# Altium integrated library RichLibrary.IntLib: 215 symbols (part 1 of 2)
Pins are listed as number, name and electrical type; pins without a type are passive.

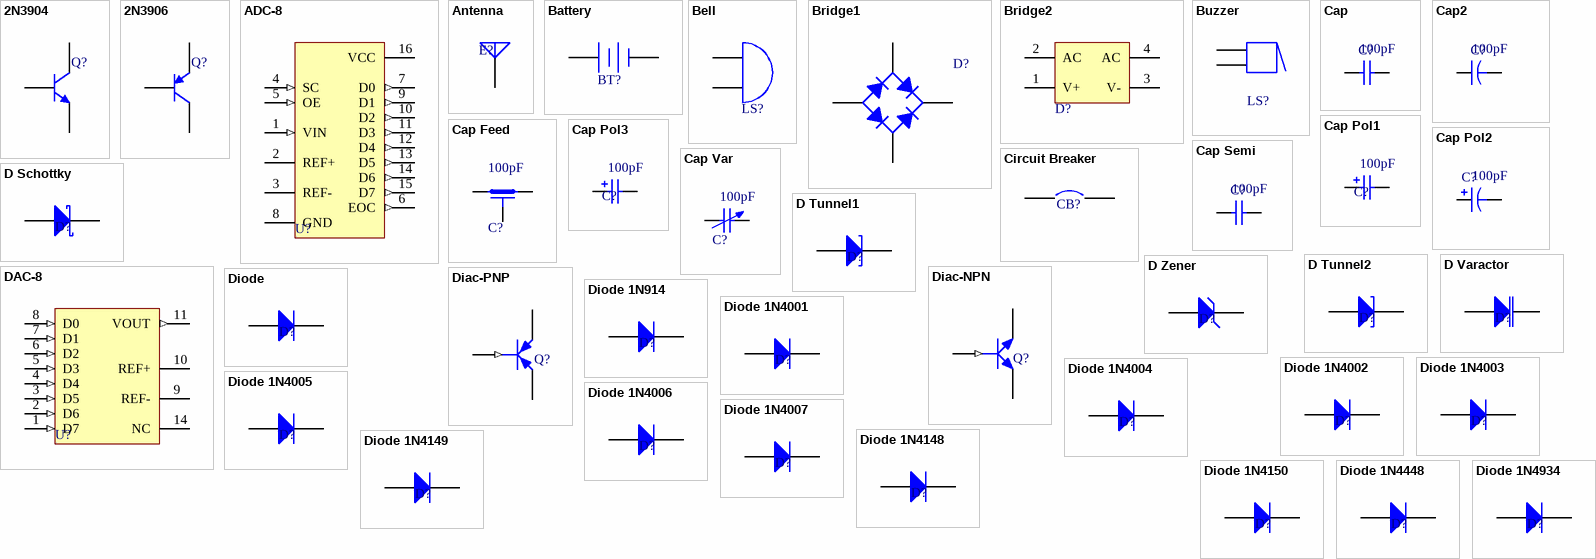
[diagram p0: symbols 2N3904 to Diode 1N4934]

## 2N3904
designator Q?
NPN General Purpose Amplifier; Published: 8-Jun-2000; LatestRevisionDate: 15-Jan-2003; LatestRevisionNote: PCB Footprint 'BCY-W3/D4.7' replaced; DatasheetDocument: 1997; PackageDocument: Sep-1998; PackageReference: TO-92A; Publisher: Altium Limited; Code_JEDEC: TO-92A; ComponentLink1Description: Manufacturer Link; ComponentLink1URL: http://www.fairchildsemi.com/; ComponentLink2Description: Datasheet; ComponentLink2URL: http://www.fairchildsemi.com/ds/2N%2F2N3904.pdf
footprint TO-92A (TO, Flat Index; 3 In-Line, Axial Leads; Body Dia. 4.5mm; Leads 0.51 x 0.48 mm (max))
simulation model 2N3904 (NPN)
signal-integrity model 2N3904
pins: 1 E, 2 B, 3 C

## 2N3906
designator Q?
PNP General Purpose Amplifier; Published: 8-Jun-2000; LatestRevisionDate: 15-Jan-2003; LatestRevisionNote: PCB Footprint 'BCY-W3/D4.7' replaced; DatasheetDocument: 1997; PackageDocument: Sep-1998; PackageReference: TO-92A; Publisher: Altium Limited; Code_JEDEC: TO-92A; ComponentLink1Description: Manufacturer Link; ComponentLink1URL: http://www.fairchildsemi.com/; ComponentLink2Description: Datasheet; ComponentLink2URL: http://www.fairchildsemi.com/ds/2N%2F2N3906.pdf
footprint TO-92A (TO, Flat Index; 3 In-Line, Axial Leads; Body Dia. 4.5mm; Leads 0.51 x 0.48 mm (max))
simulation model 2N3906 (PNP)
signal-integrity model 2N3906
pins: 1 E, 2 B, 3 C

## ADC-8
designator U?
Generic 8-Bit A/D Converter; Published: 8-Jun-2000; LatestRevisionDate: 17-Jul-2002; LatestRevisionNote: Re-released for DXP Platform.; PackageDocument: Mar-2002; PackageReference: SOT403-1; Publisher: Altium Limited; Code_JEDEC: MO-153-AB
footprint SOT403-1 (Shrink Small Outline; 16 Leads; Body Width 4.4 mm; Pitch 0.65 mm)
simulation model ADC8 (SIMCODE)
pins: 1 VIN (in), 2 REF+, 3 REF-, 4 SC (in), 5 OE (in), 6 EOC (out), 7 D0 (out), 8 GND (power), 9 D1 (out), 10 D2 (out), 11 D3 (out), 12 D4 (out), 13 D5 (out), 14 D6 (out), 15 D7 (out), 16 VCC (power)

## Antenna
designator E?
Generic Antenna; Published: 24-Mar-1999; LatestRevisionDate: 17-Jul-2002; LatestRevisionNote: Re-released for DXP Platform.; PackageReference: PIN1; Publisher: Altium Limited
footprint PIN1 (Generic Antenna; 1 Lead)
pins: 1 A

## Battery
designator BT?
Multicell Battery; Published: 24-Mar-1999; LatestRevisionDate: 17-Jul-2002; LatestRevisionNote: Re-released for DXP Platform.; PackageReference: BAT-2; Publisher: Altium Limited
footprint BAT-2 (Multicell Battery; 2 Leads)
pins: 1 +, 2 -

## Bell
designator LS?
Electrical Bell; Published: 24-Mar-1999; LatestRevisionDate: 17-Jul-2002; LatestRevisionNote: Re-released for DXP Platform.; PackageReference: PIN2; Publisher: Altium Limited
footprint PIN2 (Electrical Bell; 2 Leads)
pins: 1 A, 2 B

## Bridge1
designator D?
Full Wave Diode Bridge; Published: 8-Jun-2000; LatestRevisionDate: 17-Jul-2002; LatestRevisionNote: Re-released for DXP Platform.; PackageReference: D-38; Publisher: Altium Limited
footprint D-38 (Bridge Rectifier; 4 Terminals; Body 9.4 x 9.4 mm (typ); Pitch 5.08 mm)
simulation model BRIDGE (Spice Subcircuit)
pins: 1 A, 2 C, 3 K, 4 C

## Bridge2
designator D?
Diode Bridge; Published: 24-Mar-1999; LatestRevisionDate: 17-Jul-2002; LatestRevisionNote: Re-released for DXP Platform.; PackageReference: D-46_6A; Publisher: Altium Limited
footprint D-46_6A (Bridge Rectifier; 4 Terminals; Body 16.8 x 16.8 mm (typ); Pitch 10.67 mm)
simulation model BRIDGE (Spice Subcircuit)
pins: 1 V+, 2 AC, 3 V-, 4 AC

## Buzzer
designator LS?
Magnetic Transducer Buzzer; Published: 24-Mar-1999; LatestRevisionDate: 17-Dec-2003; LatestRevisionNote: Schematic revised, PCB Footprint replaced.; DatasheetDocument: 17-Dec-2003; PackageReference: ABSM-1574; Publisher: Altium Limited; ComponentLink1Description: Manufacturer Link; ComponentLink1URL: http://www.megastar.com/linecard/buzzmode/index.php
footprint ABSM-1574 (Magnetic Transducer Buzzer)
pins: 1, 1A, 2, 2A
1 alternate drawing of the same symbol

## Cap
designator C?  value 100pF
Capacitor; Published: 8-Jun-2000; LatestRevisionDate: 17-Jul-2002; LatestRevisionNote: Re-released for DXP Platform.; PackageReference: RAD-0.3; Publisher: Altium Limited
footprint RAD-0.3 (Capacitor; 2 Leads)
footprint VP32-3.2 (Capacitor, Ceramic, Thru-Hole, Dipped Radial; Body 5.1 x 3.2 mm (WxT) Pin Spacing 2.54 mm (typ))
footprint VP45-3.2 (Capacitor, Ceramic, Thru-Hole, Dipped Radial; Body 7.8 x 3.2 mm (WxT) Pin Spacing 5.08 mm (typ))
simulation model CAP (Capacitor)
signal-integrity model Cap
pins: 1, 2

## Cap2
designator C?  value 100pF
Capacitor; Published: 23-Sep-2002; PackageReference: CAPR5-4X5; Publisher: Altium Limited
footprint CAPR5-4X5 (Capacitor; 2 Leads)
simulation model CAP (Capacitor)
signal-integrity model Cap
pins: 1, 2

## Cap Feed
designator C?  value 100pF
Feed-Through Capacitor; Note: Commonly used for bypassing high-frequency currents to chassis; Published: 24-Mar-1999; LatestRevisionDate: 17-Jul-2002; LatestRevisionNote: Re-released for DXP Platform.; PackageReference: VR4; Publisher: Altium Limited
footprint VR4 (Feed-Through Capacitor; 3 Leads)
signal-integrity model Cap Feed
pins: 1, 2, 3

## Cap Pol1
designator C?  value 100pF
Polarized Capacitor (Radial); Published: 8-Jun-2000; LatestRevisionDate: 17-Jul-2002; LatestRevisionNote: Re-released for DXP Platform.; PackageReference: RB7.6-15; Publisher: Altium Limited
footprint RB7.6-15 (Polarized Capacitor (Radial); 2 Leads)
footprint HA-C1 (Capacitor, Radial, Tantalum; Body 1.7 x 2.8 mm (Dia.xH max); Pin Spacing 1.27 mm (typ))
footprint A (Capacitor, Electrolytic, Radial; Body 4 x 5 mm (Dia.xH typ); Pin Spacing 1.5 mm (typ))
footprint B (Capacitor, Electrolytic, Radial; Body 5 x 6.8 mm (Dia.xH typ); Pin Spacing 2 mm (typ))
footprint CAPPR5-5x5 (Capacitor, Electrolytic, Radial; Body 5 x 5 mm (Dia.xH typ); Pin Spacing 5 mm (typ))
footprint CAPPR7.5-16x35 (Capacitor, Electrolytic, Radial; Body 16 x 35 mm (Dia.xH typ); Pin Spacing 7.5 mm (typ))
simulation model CAP (Capacitor)
signal-integrity model Cap Pol
pins: 1, 2
1 alternate drawing of the same symbol

## Cap Pol2
designator C?  value 100pF
Polarized Capacitor (Axial); Published: 8-Jun-2000; LatestRevisionDate: 17-Jul-2002; LatestRevisionNote: Re-released for DXP Platform.; PackageReference: POLAR0.8; Publisher: Altium Limited
footprint POLAR0.8 (Polarized Capacitor (Axial); 2 Leads)
footprint CAPPA14.05-10.5x6.3 (Capacitor, Axial, Polarised; Body 10.5 x 6.3 mm (LxDia. max), Lead Dia. 0.6 mm (typ))
footprint CAPPA23.6-18.5x8.5 (Capacitor, Axial, Polarised; Body 18.5 x 8.5 mm (LxDia. max), Lead Dia. 0.8 mm (typ))
footprint CAPPA31.6-26.5x12.5 (Capacitor, Axial, Polarised; Body 26.5 x 12.5 mm (LxDia. max), Lead Dia. 0.8 mm (typ))
footprint CAPPA35.6-30.5x18.5 (Capacitor, Axial, Polarised; Body 30.5 x 18.5 mm (LxDia. max), Lead Dia. 0.8 mm (typ))
footprint CAPPA46.1-41x21.5 (Capacitor, Axial, Polarised; Body 41 x 21.5 mm (LxDia. max), Lead Dia. 0.8 mm (typ))
simulation model CAP (Capacitor)
signal-integrity model Cap Pol
pins: 1, 2
1 alternate drawing of the same symbol

## Cap Pol3
designator C?  value 100pF
Polarized Capacitor (Surface Mount); Published: 8-Jun-2000; LatestRevisionDate: 17-Jul-2002; LatestRevisionNote: Re-released for DXP Platform.; PackageReference: C0805; Publisher: Altium Limited
footprint C0805 (Chip Capacitor; Body 2.0 x 1.2 mm (LxW typ))
footprint 1812 (Chip Capacitor; Body 4.5 x 3.2 mm (LxW typ))
footprint 1825 (Chip Capacitor; Body 4.5 x 6.4 mm (LxW typ))
footprint C2225 (Chip Capacitor; Body 5.6 x 6.4 mm (LxW typ))
footprint 2220 (Chip Capacitor; Body 5.7 x 5.0 mm (LxW typ))
simulation model CAP (Capacitor)
signal-integrity model Cap Pol
pins: 1, 2
1 alternate drawing of the same symbol

## Cap Semi
designator C?  value 100pF
Capacitor (Semiconductor SIM Model); Published: 8-Jun-2000; LatestRevisionDate: 17-Jul-2002; LatestRevisionNote: Re-released for DXP Platform.; PackageReference: C1206; Publisher: Altium Limited
footprint C1206 (Chip Capacitor; Body 3.2 x 1.6 mm (LxW typ))
footprint 0402 (Chip Capacitor; Body 1.0 x 0.5 mm (LxW typ))
footprint 1310[0504] (Chip Capacitor; Body 1.2 x 1.0 mm (LxW typ))
footprint 1608[0603] (Chip Capacitor; Body 1.6 x 0.8 mm (LxW typ))
footprint C1210 (Chip Capacitor; Body 3.2 x 2.5 mm (LxW typ))
simulation model CAP (Semiconductor Capacitor)
signal-integrity model Cap Semi
pins: 1, 2

## Cap Var
designator C?  value 100pF
Variable or Adjustable Capacitor; Published: 24-Mar-1999; LatestRevisionDate: 17-Jul-2002; LatestRevisionNote: Re-released for DXP Platform.; PackageReference: C1210; Publisher: Altium Limited
footprint C1210 (Chip Capacitor; Body 3.2 x 2.5 mm (LxW typ))
signal-integrity model Cap Var
pins: 1, 2

## Circuit Breaker
designator CB?
Circuit Breaker; Published: 24-Mar-1999; LatestRevisionDate: 17-Jul-2002; LatestRevisionNote: Re-released for DXP Platform.; PackageReference: SPST-2; Publisher: Altium Limited
footprint SPST-2 (Circuit Breaker; 2 Leads)
pins: 1, 2

## D Schottky
designator D?
Schottky Diode; Published: 8-Jun-2000; LatestRevisionDate: 17-Jul-2002; LatestRevisionNote: Re-released for DXP Platform.; PackageReference: SMB; Publisher: Altium Limited; Code_JEDEC: DO-214-AA
footprint SMB (DO-214-AA/SMB; 2 C-Bend Leads; Body 5.3 x 3.6 mm, inc. leads (LxW))
simulation model SKYDIODE (Diode)
signal-integrity model D Schottky
pins: 1 A, 2 K

## D Tunnel1
designator D?
Tunnel Diode - RLC Model; Published: 8-Jun-2000; LatestRevisionDate: 17-Jul-2002; LatestRevisionNote: Re-released for DXP Platform.; PackageDocument: Feb-2002; PackageReference: 3.2X1.6X1.1; Publisher: Altium Limited
footprint 3.2X1.6X1.1 (SMT LED; 2 Flat Leads)
simulation model DTUNNEL1 (Spice Subcircuit)
signal-integrity model D Tunnel
pins: 1 A, 2 K

## D Tunnel2
designator D?
Tunnel Diode - Dependent Source Model; Published: 15-Apr-2002; LatestRevisionDate: 17-Jul-2002; LatestRevisionNote: Re-released for DXP Platform.; PackageReference: DIODE-0.4; Publisher: Altium Limited
footprint DIODE-0.4 (Tunnel Diode - Dependent Source Model; 2 Leads)
simulation model DTUNNEL2 (Spice Subcircuit)
signal-integrity model D Tunnel
pins: 1 A, 2 K

## D Varactor
designator D?
Variable Capacitance Diode; Note: Pin 2 is not connected and not drawn.; Published: 8-Jun-2000; LatestRevisionDate: 17-Jul-2002; LatestRevisionNote: Re-released for DXP Platform.; DatasheetDocument: Jan-1998; PackageReference: SOT23A; Publisher: Altium Limited; Code_JEDEC: SOT23; ComponentLink1Description: Manufacturer Link; ComponentLink1URL: http://www.zetex.com/
footprint SOT23A (SOT-23; 3 Leads; Body 3.0 x 2.5 mm, inc. leads (LxW max))
simulation model BBY31 (Diode)
signal-integrity model D Varactor
pins: 1 K, 3 A

## D Zener
designator D?
Zener Diode; Published: 8-Jun-2000; LatestRevisionDate: 17-Jul-2002; LatestRevisionNote: Re-released for DXP Platform.; PackageReference: DIODE-0.7; Publisher: Altium Limited
footprint DIODE-0.7 (Zener Diode; 2 Leads)
simulation model ZENER (Diode)
signal-integrity model D Zener
pins: 1 A, 2 K

## DAC-8
designator U?
Generic 8-Bit D/A Converter; Published: 8-Jun-2000; LatestRevisionDate: 16-Dec-2005; LatestRevisionNote: Hidden power pin's "Connect To" field completed.; PackageDocument: Mar-2002; PackageReference: SOT402-1; Publisher: Altium Limited; Code_JEDEC: MO-153-AB-1
footprint SOT402-1 (Shrink Small Outline; 14 Leads; Body Width 4.4 mm; Pitch 0.65 mm)
simulation model DAC8 (SIMCODE)
pins: 1 D7 (in), 2 D6 (in), 3 D5 (in), 4 D4 (in), 5 D3 (in), 6 D2 (in), 7 D1 (in), 8 D0 (in), 9 REF-, 10 REF+, 11 VOUT (out), 12 GND (power) hidden to GND, 13 VCC (power) hidden to VCC, 14 NC

## Diac-NPN
designator Q?
DIAC; Published: 24-Mar-1999; LatestRevisionDate: 17-Jul-2002; LatestRevisionNote: Re-released for DXP Platform.; PackageReference: TO-262-AA; Publisher: Altium Limited; Code_JEDEC: TO-262-AA
footprint TO-262-AA (TO, Thru-Hole, Vertical, Heatsink Mounted; 3 In-Line Leads; Pitch 2.54 mm)
pins: 1 B (in), 2 C, 3 E

## Diac-PNP
designator Q?
DIAC; Published: 24-Mar-1999; LatestRevisionDate: 17-Jul-2002; LatestRevisionNote: Re-released for DXP Platform.; PackageReference: SOT89; Publisher: Altium Limited; Code_JEDEC: TO-243 AA; Code_IPC: SOT 89
footprint SOT89 (SOT-89; Body 4.6 x 4.25 mm, inc. leads (LxW max))
pins: 1 B (in), 2 E, 3 C

## Diode
designator D?
Default Diode; Published: 8-Jun-2000; LatestRevisionDate: 17-Jul-2002; LatestRevisionNote: Re-released for DXP Platform.; PackageDocument: Sep-1996; PackageReference: SMC; Publisher: Altium Limited; Code_JEDEC: DO-214-AB
footprint SMC (DO-214-AB/SMC; 2 C-Bend Leads; Body 7.9 x 5.9 mm, inc. leads (LxW))
simulation model DIODE (Diode)
signal-integrity model Diode
pins: 1 A, 2 K

## Diode 1N914
designator D?
High Conductance Fast Diode; Published: 8-Jun-2000; LatestRevisionDate: 17-Jul-2002; LatestRevisionNote: Re-released for DXP Platform.; DatasheetDocument: 1997; PackageReference: DO-35; Publisher: Altium Limited; Code_JEDEC: DO-204-AH; ComponentLink1Description: Manufacturer Link; ComponentLink1URL: http://www.fairchildsemi.com/; ComponentLink2Description: Datasheet; ComponentLink2URL: http://www.fairchildsemi.com/ds/1N%2F1N4448.pdf
footprint DO-35 (Diode, Axial; Body 3.8 x 1.9 mm (LxDia. max), Lead Dia. 0.53 mm (max))
simulation model 1N914 (DIODE)
signal-integrity model 1N914
pins: 1 A, 2 K

## Diode 1N4001
designator D?
1 Amp General Purpose Rectifier; Published: 8-Jun-2000; LatestRevisionDate: 17-Jul-2002; LatestRevisionNote: Re-released for DXP Platform.; DatasheetDocument: 1998; PackageDocument: Aug-1999; PackageReference: DO-41; Publisher: Altium Limited; Code_JEDEC: DO-204-AL; ComponentLink1Description: Manufacturer Link; ComponentLink1URL: http://www.fairchildsemi.com/; ComponentLink2Description: Datasheet; ComponentLink2URL: http://www.fairchildsemi.com/ds/1N%2F1N4001.pdf
footprint DO-41 (Diode, Axial; Body 5.2 x 2.7 mm (LxDia. max), Lead Dia. 0.86 mm (max))
simulation model 1N4001 (DIODE)
signal-integrity model 1N4001
pins: 1 A, 2 K

## Diode 1N4002
designator D?
1 Amp General Purpose Rectifier; Published: 8-Jun-2000; LatestRevisionDate: 17-Jul-2002; LatestRevisionNote: Re-released for DXP Platform.; DatasheetDocument: 1998; PackageDocument: Aug-1999; PackageReference: DO-41; Publisher: Altium Limited; Code_JEDEC: DO-204-AL; ComponentLink1Description: Manufacturer Link; ComponentLink1URL: http://www.fairchildsemi.com/; ComponentLink2Description: Datasheet; ComponentLink2URL: http://www.fairchildsemi.com/ds/1N%2F1N4001.pdf
footprint DO-41 (Diode, Axial; Body 5.2 x 2.7 mm (LxDia. max), Lead Dia. 0.86 mm (max))
simulation model 1N4002 (DIODE)
signal-integrity model 1N4002
pins: 1 A, 2 K

## Diode 1N4003
designator D?
1 Amp General Purpose Rectifier; Published: 8-Jun-2000; LatestRevisionDate: 17-Jul-2002; LatestRevisionNote: Re-released for DXP Platform.; DatasheetDocument: 1998; PackageDocument: Aug-1999; PackageReference: DO-41; Publisher: Altium Limited; Code_JEDEC: DO-204-AL; ComponentLink1Description: Manufacturer Link; ComponentLink1URL: http://www.fairchildsemi.com/; ComponentLink2Description: Datasheet; ComponentLink2URL: http://www.fairchildsemi.com/ds/1N%2F1N4001.pdf
footprint DO-41 (Diode, Axial; Body 5.2 x 2.7 mm (LxDia. max), Lead Dia. 0.86 mm (max))
simulation model 1N4003 (DIODE)
signal-integrity model 1N4003
pins: 1 A, 2 K

## Diode 1N4004
designator D?
1 Amp General Purpose Rectifier; Published: 8-Jun-2000; LatestRevisionDate: 17-Jul-2002; LatestRevisionNote: Re-released for DXP Platform.; DatasheetDocument: 1998; PackageDocument: Aug-1999; PackageReference: DO-41; Publisher: Altium Limited; Code_JEDEC: DO-204-AL; ComponentLink1Description: Manufacturer Link; ComponentLink1URL: http://www.fairchildsemi.com/; ComponentLink2Description: Datasheet; ComponentLink2URL: http://www.fairchildsemi.com/ds/1N%2F1N4001.pdf
footprint DO-41 (Diode, Axial; Body 5.2 x 2.7 mm (LxDia. max), Lead Dia. 0.86 mm (max))
simulation model 1N4004 (DIODE)
signal-integrity model 1N4004
pins: 1 A, 2 K

## Diode 1N4005
designator D?
1 Amp General Purpose Rectifier; Published: 8-Jun-2000; LatestRevisionDate: 17-Jul-2002; LatestRevisionNote: Re-released for DXP Platform.; DatasheetDocument: 1998; PackageDocument: Aug-1999; PackageReference: DO-41; Publisher: Altium Limited; Code_JEDEC: DO-204-AL; ComponentLink1Description: Manufacturer Link; ComponentLink1URL: http://www.fairchildsemi.com/; ComponentLink2Description: Datasheet; ComponentLink2URL: http://www.fairchildsemi.com/ds/1N%2F1N4001.pdf
footprint DO-41 (Diode, Axial; Body 5.2 x 2.7 mm (LxDia. max), Lead Dia. 0.86 mm (max))
simulation model 1N4005 (DIODE)
signal-integrity model 1N4005
pins: 1 A, 2 K

## Diode 1N4006
designator D?
1 Amp General Purpose Rectifier; Published: 8-Jun-2000; LatestRevisionDate: 17-Jul-2002; LatestRevisionNote: Re-released for DXP Platform.; DatasheetDocument: 1998; PackageDocument: Aug-1999; PackageReference: DO-41; Publisher: Altium Limited; Code_JEDEC: DO-204-AL; ComponentLink1Description: Manufacturer Link; ComponentLink1URL: http://www.fairchildsemi.com/; ComponentLink2Description: Datasheet; ComponentLink2URL: http://www.fairchildsemi.com/ds/1N%2F1N4001.pdf
footprint DO-41 (Diode, Axial; Body 5.2 x 2.7 mm (LxDia. max), Lead Dia. 0.86 mm (max))
simulation model 1N4006 (DIODE)
signal-integrity model 1N4006
pins: 1 A, 2 K

## Diode 1N4007
designator D?
1 Amp General Purpose Rectifier; Published: 8-Jun-2000; LatestRevisionDate: 17-Jul-2002; LatestRevisionNote: Re-released for DXP Platform.; DatasheetDocument: 1998; PackageDocument: Aug-1999; PackageReference: DO-41; Publisher: Altium Limited; Code_JEDEC: DO-204-AL; ComponentLink1Description: Manufacturer Link; ComponentLink1URL: http://www.fairchildsemi.com/; ComponentLink2Description: Datasheet; ComponentLink2URL: http://www.fairchildsemi.com/ds/1N%2F1N4001.pdf
footprint DO-41 (Diode, Axial; Body 5.2 x 2.7 mm (LxDia. max), Lead Dia. 0.86 mm (max))
simulation model 1N4007 (DIODE)
signal-integrity model 1N4007
pins: 1 A, 2 K

## Diode 1N4148
designator D?
High Conductance Fast Diode; Published: 8-Jun-2000; LatestRevisionDate: 17-Jul-2002; LatestRevisionNote: Re-released for DXP Platform.; DatasheetDocument: 1997; PackageReference: DO-35; Publisher: Altium Limited; Code_JEDEC: DO-204-AH; ComponentLink1Description: Manufacturer Link; ComponentLink1URL: http://www.fairchildsemi.com/; ComponentLink2Description: Datasheet; ComponentLink2URL: http://www.fairchildsemi.com/ds/1N%2F1N4148.pdf
footprint DO-35 (Diode, Axial; Body 3.8 x 1.9 mm (LxDia. max), Lead Dia. 0.53 mm (max))
simulation model 1N4148 (DIODE)
signal-integrity model 1N4148
pins: 1 A, 2 K

## Diode 1N4149
designator D?
Computer Diode; PackageDocument: 1989; Published: 8-Jun-2000; LatestRevisionDate: 17-Jul-2002; LatestRevisionNote: Re-released for DXP Platform.; DatasheetDocument: 1989; PackageReference: DO-35A; Publisher: Altium Limited; Code_JEDEC: DO-204-AH; ComponentLink1Description: Manufacturer Link; ComponentLink1URL: http://www.national.com/
footprint DO-35A (Diode, Axial; Body 4.6 x 1.9 mm (LxDia. max), Lead Dia. 0.53 mm (max))
simulation model 1N4149 (DIODE)
pins: 1 A, 2 K

## Diode 1N4150
designator D?
High Conductance Ultra Fast Diode; Published: 8-Jun-2000; LatestRevisionDate: 17-Jul-2002; LatestRevisionNote: Re-released for DXP Platform.; DatasheetDocument: 1997; PackageReference: DO-35; Publisher: Altium Limited; Code_JEDEC: DO-204-AH; ComponentLink1Description: Manufacturer Link; ComponentLink1URL: http://www.fairchildsemi.com/
footprint DO-35 (Diode, Axial; Body 3.8 x 1.9 mm (LxDia. max), Lead Dia. 0.53 mm (max))
simulation model 1N4150 (DIODE)
signal-integrity model 1N4150
pins: 1 A, 2 K

## Diode 1N4448
designator D?
High Conductance Fast Diode; Published: 8-Jun-2000; LatestRevisionDate: 17-Jul-2002; LatestRevisionNote: Re-released for DXP Platform.; DatasheetDocument: 1997; PackageReference: DO-35; Publisher: Altium Limited; Code_JEDEC: DO-204-AH; ComponentLink1Description: Manufacturer Link; ComponentLink1URL: http://www.fairchildsemi.com/; ComponentLink2Description: Datasheet; ComponentLink2URL: http://www.fairchildsemi.com/ds/1N%2F1N4448.pdf
footprint DO-35 (Diode, Axial; Body 3.8 x 1.9 mm (LxDia. max), Lead Dia. 0.53 mm (max))
simulation model 1N4448 (DIODE)
signal-integrity model 1N4448
pins: 1 A, 2 K

## Diode 1N4934
designator D?
1 Amp Fast Recovery Rectifier; Published: 8-Jun-2000; LatestRevisionDate: 17-Jul-2002; LatestRevisionNote: Re-released for DXP Platform.; DatasheetDocument: 1999; PackageDocument: Aug-1999; PackageReference: DO-41; Publisher: Altium Limited; Code_JEDEC: DO-204-AL; ComponentLink1Description: Manufacturer Link; ComponentLink1URL: http://www.fairchildsemi.com/; ComponentLink2Description: Datasheet; ComponentLink2URL: http://www.fairchildsemi.com/ds/1N%2F1N4934.pdf
footprint DO-41 (Diode, Axial; Body 5.2 x 2.7 mm (LxDia. max), Lead Dia. 0.86 mm (max))
simulation model 1N4934 (DIODE)
signal-integrity model 1N4934
pins: 1 A, 2 K

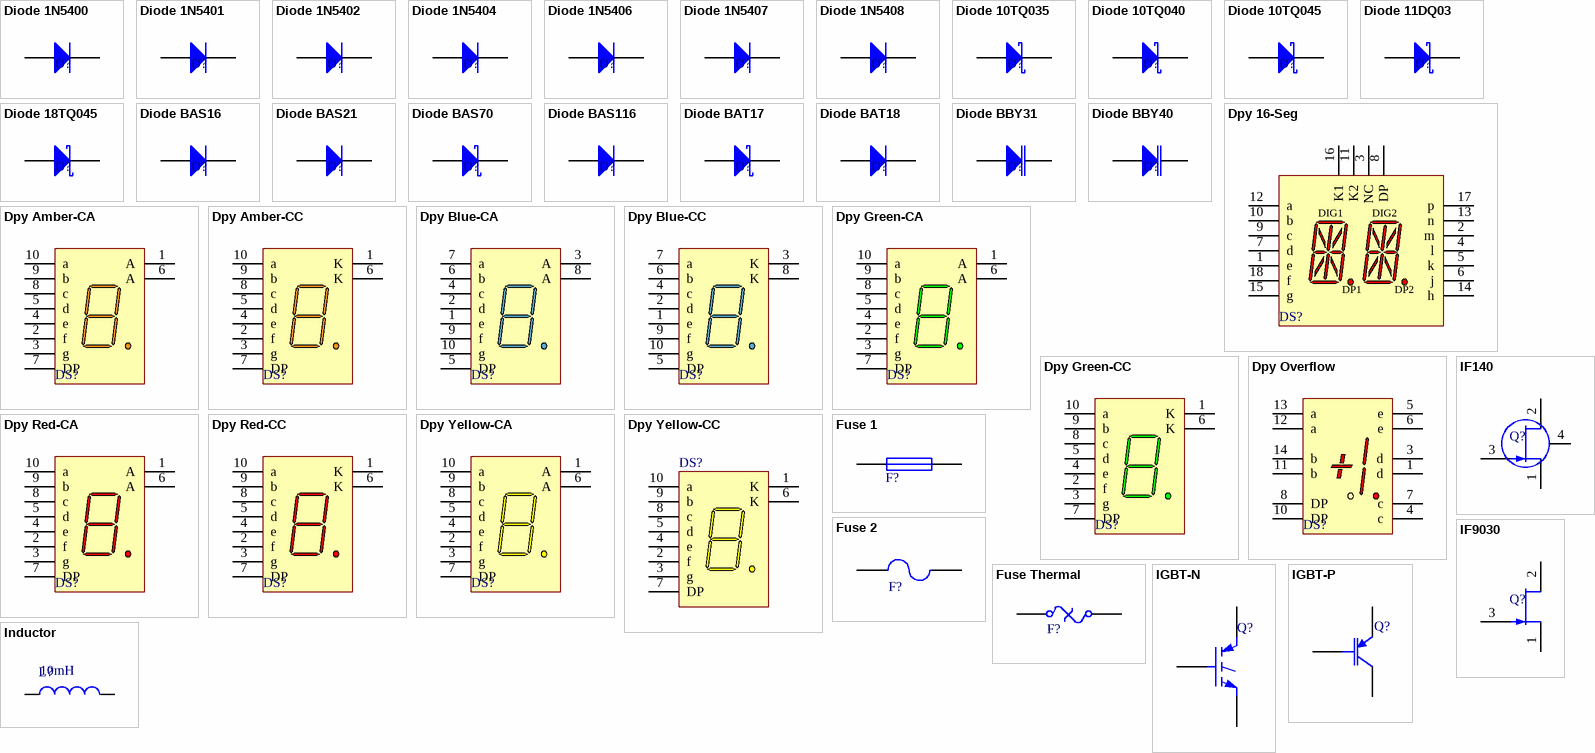
[diagram p1: symbols Diode 1N5400 to Inductor]

## Diode 1N5400
designator D?
3 Amp General Purpose Rectifier; Published: 8-Jun-2000; LatestRevisionDate: 17-Jul-2002; LatestRevisionNote: Re-released for DXP Platform.; DatasheetDocument: 1998; PackageDocument: Aug-1999; PackageReference: DO-201AD; Publisher: Altium Limited; ComponentLink1Description: Manufacturer Link; ComponentLink1URL: http://www.fairchildsemi.com/; ComponentLink2Description: Datasheet; ComponentLink2URL: http://www.fairchildsemi.com/ds/1N%2F1N5400.pdf
footprint DO-201AD (Diode, Axial; Body 9.5 x 5.6 mm (LxDia. max), Lead Dia. 1.32 mm (max))
simulation model 1N5400 (DIODE)
signal-integrity model 1N5400
pins: 1 A, 2 K

## Diode 1N5401
designator D?
3 Amp General Purpose Rectifier; Published: 8-Jun-2000; LatestRevisionDate: 17-Jul-2002; LatestRevisionNote: Re-released for DXP Platform.; DatasheetDocument: 1998; PackageDocument: Aug-1999; PackageReference: DO-201AD; Publisher: Altium Limited; ComponentLink1Description: Manufacturer Link; ComponentLink1URL: http://www.fairchildsemi.com/; ComponentLink2Description: Datasheet; ComponentLink2URL: http://www.fairchildsemi.com/ds/1N%2F1N5400.pdf
footprint DO-201AD (Diode, Axial; Body 9.5 x 5.6 mm (LxDia. max), Lead Dia. 1.32 mm (max))
simulation model 1N5401 (DIODE)
signal-integrity model 1N5401
pins: 1 A, 2 K

## Diode 1N5402
designator D?
3 Amp General Purpose Rectifier; Published: 8-Jun-2000; LatestRevisionDate: 17-Jul-2002; LatestRevisionNote: Re-released for DXP Platform.; DatasheetDocument: 1998; PackageDocument: Aug-1999; PackageReference: DO-201AD; Publisher: Altium Limited; ComponentLink1Description: Manufacturer Link; ComponentLink1URL: http://www.fairchildsemi.com/; ComponentLink2Description: Datasheet; ComponentLink2URL: http://www.fairchildsemi.com/ds/1N%2F1N5400.pdf
footprint DO-201AD (Diode, Axial; Body 9.5 x 5.6 mm (LxDia. max), Lead Dia. 1.32 mm (max))
simulation model 1N5402 (DIODE)
signal-integrity model 1N5402
pins: 1 A, 2 K

## Diode 1N5404
designator D?
3 Amp General Purpose Rectifier; Published: 8-Jun-2000; LatestRevisionDate: 17-Jul-2002; LatestRevisionNote: Re-released for DXP Platform.; DatasheetDocument: 1998; PackageDocument: Aug-1999; PackageReference: DO-201AD; Publisher: Altium Limited; ComponentLink1Description: Manufacturer Link; ComponentLink1URL: http://www.fairchildsemi.com/; ComponentLink2Description: Datasheet; ComponentLink2URL: http://www.fairchildsemi.com/ds/1N%2F1N5400.pdf
footprint DO-201AD (Diode, Axial; Body 9.5 x 5.6 mm (LxDia. max), Lead Dia. 1.32 mm (max))
simulation model 1N5404 (DIODE)
signal-integrity model 1N5404
pins: 1 A, 2 K

## Diode 1N5406
designator D?
3 Amp General Purpose Rectifier; Published: 8-Jun-2000; LatestRevisionDate: 17-Jul-2002; LatestRevisionNote: Re-released for DXP Platform.; DatasheetDocument: 1998; PackageDocument: Aug-1999; PackageReference: DO-201AD; Publisher: Altium Limited; ComponentLink1Description: Manufacturer Link; ComponentLink1URL: http://www.fairchildsemi.com/; ComponentLink2Description: Datasheet; ComponentLink2URL: http://www.fairchildsemi.com/ds/1N%2F1N5400.pdf
footprint DO-201AD (Diode, Axial; Body 9.5 x 5.6 mm (LxDia. max), Lead Dia. 1.32 mm (max))
simulation model 1N5406 (DIODE)
signal-integrity model 1N5406
pins: 1 A, 2 K

## Diode 1N5407
designator D?
3 Amp Medium Power Silicon Rectifier Diode; Published: 8-Jun-2000; LatestRevisionDate: 17-Jul-2002; LatestRevisionNote: Re-released for DXP Platform.; DatasheetDocument: Aug-1984; PackageReference: DO-201AD; Publisher: Altium Limited; ComponentLink1Description: Manufacturer Link; ComponentLink1URL: http://www.irf.com/
footprint DO-201AD (Diode, Axial; Body 9.5 x 5.3 mm (LxDia. max), Lead Dia. 1.32 mm (max))
simulation model 1N5407 (DIODE)
signal-integrity model 1N5407
pins: 1 A, 2 K

## Diode 1N5408
designator D?
3 Amp Medium Power Silicon Rectifier Diode; Published: 8-Jun-2000; LatestRevisionDate: 17-Jul-2002; LatestRevisionNote: Re-released for DXP Platform.; DatasheetDocument: Aug-1984; PackageReference: DO-201AD; Publisher: Altium Limited; ComponentLink1Description: Manufacturer Link; ComponentLink1URL: http://www.irf.com/
footprint DO-201AD (Diode, Axial; Body 9.5 x 5.3 mm (LxDia. max), Lead Dia. 1.32 mm (max))
simulation model 1N5408 (DIODE)
signal-integrity model 1N5408
pins: 1 A, 2 K

## Diode 10TQ035
designator D?
Schottky Rectifier; Note: Terminal 2 is the TAB and is electrically connected to the cathode; Published: 8-Jun-2000; LatestRevisionDate: 17-Jul-2002; LatestRevisionNote: Re-released for DXP Platform.; DatasheetDocument: PD-2.057B; PackageDocument: Feb-1998; PackageReference: TO-220AC; Publisher: Altium Limited; ComponentLink1Description: Manufacturer Link; ComponentLink1URL: http://www.irf.com/; ComponentLink2Description: Datasheet; ComponentLink2URL: http://www.irf.com/product-info/datasheets/data/10tq.pdf
footprint TO-220AC (TO, Thru-Hole, Vertical, Heatsink Mounted; 3 In-Line Leads (1 Absent); Pitch 2.54 mm)
simulation model 10TQ035 (DIODE)
pins: 1 K, 3 A

## Diode 10TQ040
designator D?
Schottky Rectifier; Note: Terminal 2 is the TAB and is electrically connected to the cathode; Published: 8-Jun-2000; LatestRevisionDate: 17-Jul-2002; LatestRevisionNote: Re-released for DXP Platform.; DatasheetDocument: PD-2.057B; PackageDocument: Feb-1998; PackageReference: TO-220AC; Publisher: Altium Limited; ComponentLink1Description: Manufacturer Link; ComponentLink1URL: http://www.irf.com/
footprint TO-220AC (TO, Thru-Hole, Vertical, Heatsink Mounted; 3 In-Line Leads (1 Absent); Pitch 2.54 mm)
simulation model 10TQ040 (DIODE)
pins: 1 K, 3 A

## Diode 10TQ045
designator D?
Schottky Rectifier; Note: Terminal 2 is the TAB and is electrically connected to the cathode; Published: 8-Jun-2000; LatestRevisionDate: 17-Jul-2002; LatestRevisionNote: Re-released for DXP Platform.; DatasheetDocument: PD-2.057B; PackageDocument: Feb-1998; PackageReference: TO-220AC; Publisher: Altium Limited; ComponentLink1Description: Manufacturer Link; ComponentLink1URL: http://www.irf.com/; ComponentLink2Description: Datasheet; ComponentLink2URL: http://www.irf.com/product-info/datasheets/data/10tq.pdf
footprint TO-220AC (TO, Thru-Hole, Vertical, Heatsink Mounted; 3 In-Line Leads (1 Absent); Pitch 2.54 mm)
simulation model 10TQ045 (DIODE)
pins: 1 K, 3 A

## Diode 11DQ03
designator D?
Schottky Rectifier; Published: 8-Jun-2000; LatestRevisionDate: 17-Jul-2002; LatestRevisionNote: Re-released for DXP Platform.; DatasheetDocument: Dec-1997; PackageReference: DO-204AL; Publisher: Altium Limited; Code_JEDEC: DO-204-AL; ComponentLink1Description: Manufacturer Link; ComponentLink1URL: http://www.irf.com/; ComponentLink2Description: Datasheet; ComponentLink2URL: http://www.irf.com/product-info/datasheets/data/11dq03.pdf
footprint DO-204AL (Diode, Axial; Body 5.2 x 2.7 mm (LxDia. max), Lead Dia. 0.86 mm (max))
simulation model 11DQ03 (DIODE)
pins: 1 A, 2 K

## Diode 18TQ045
designator D?
Schottky Rectifier; Note: Terminal 2 is the TAB and is electrically connected to the cathode; Published: 8-Jun-2000; LatestRevisionDate: 17-Jul-2002; LatestRevisionNote: Re-released for DXP Platform.; DatasheetDocument: Dec-1997; PackageDocument: Feb-1998; PackageReference: TO-220AC; Publisher: Altium Limited; ComponentLink1Description: Manufacturer Link; ComponentLink1URL: http://www.irf.com/; ComponentLink2Description: Datasheet; ComponentLink2URL: http://www.irf.com/product-info/datasheets/data/18tq.pdf
footprint TO-220AC (TO, Thru-Hole, Vertical, Heatsink Mounted; 3 In-Line Leads (1 Absent); Pitch 2.54 mm)
simulation model 18TQ045 (DIODE)
pins: 1 K, 3 A

## Diode BAS16
designator D?
Silicon Switching Diode for High-Speed Switching; Note: Pin 2 is not connected and not drawn.; Published: 21-Mar-2003; DatasheetDocument: Oct-1999; PackageDocument: Sep-2001; PackageReference: SOT-23; Publisher: Altium Limited; ComponentLink1Description: Manufacturer Link; ComponentLink1URL: http://www.infineon.com/; ComponentLink2Description: Datasheet; ComponentLink2URL: http://www.infineon.com/upload/Document/cmc_upload/documents/012/5331/bas16series.pdf
footprint SOT-23 (SOT-23; 3 Leads; Body 3.0 x 2.6 mm, inc. leads (LxW max))
simulation model BAS16 (SUBCKT)
pins: 1 A, 3 K

## Diode BAS21
designator D?
Silicon Switching Diode for High-Speed, High-Voltage Switching; Note: Pin 2 is not connected and not drawn.; Published: 21-Mar-2003; DatasheetDocument: Oct-1999; PackageDocument: Sep-2001; PackageReference: SOT-23; Publisher: Altium Limited; ComponentLink1Description: Manufacturer Link; ComponentLink1URL: http://www.infineon.com/; ComponentLink2Description: Datasheet; ComponentLink2URL: http://www.infineon.com/upload/Document/cmc_upload/documents/080/812/bas21series.pdf
footprint SOT-23 (SOT-23; 3 Leads; Body 3.0 x 2.6 mm, inc. leads (LxW max))
simulation model BAS21 (DIODE)
pins: 1 A, 3 K

## Diode BAS70
designator D?
Silicon AF Schottky Diode for High-Speed Switching; Note: Pin 2 is not connected and not drawn.; Published: 21-Mar-2003; DatasheetDocument: Oct-1999; PackageDocument: Sep-2001; PackageReference: SOT-23; Publisher: Altium Limited; ComponentLink1Description: Manufacturer Link; ComponentLink1URL: http://www.infineon.com/; ComponentLink2Description: Datasheet; ComponentLink2URL: http://www.infineon.com/upload/Document/cmc_upload/documents/009/382/bas40_bas140series_1.pdf
footprint SOT-23 (SOT-23; 3 Leads; Body 3.0 x 2.6 mm, inc. leads (LxW max))
simulation model BAS70 (DIODE)
pins: 1 A, 3 K

## Diode BAS116
designator D?
Silicon Low Leakage Diode; Note: Pin 2 is not connected and not drawn.; Published: 21-Mar-2003; DatasheetDocument: Oct-1999; PackageDocument: Sep-2001; PackageReference: SOT-23; Publisher: Altium Limited; ComponentLink1Description: Manufacturer Link; ComponentLink1URL: http://www.infineon.com/; ComponentLink2Description: Datasheet; ComponentLink2URL: http://www.infineon.com/upload/Document/cmc_upload/documents/080/656/bas116series.pdf
footprint SOT-23 (SOT-23; 3 Leads; Body 3.0 x 2.6 mm, inc. leads (LxW max))
simulation model BAS116 (DIODE)
pins: 1 A, 3 K

## Diode BAT17
designator D?
Silicon RF Schottky Diode for Mixer Applications in the VHF/UHF Range; Note: Pin 2 is not connected and not drawn.; Published: 21-Mar-2003; DatasheetDocument: Oct-1999; PackageDocument: Sep-2001; PackageReference: SOT-23; Publisher: Altium Limited; ComponentLink1Description: Manufacturer Link; ComponentLink1URL: http://www.infineon.com/; ComponentLink2Description: Datasheet; ComponentLink2URL: http://www.infineon.com/upload/Document/cmc_upload/documents/009/363/bat17series.pdf
footprint SOT-23 (SOT-23; 3 Leads; Body 3.0 x 2.6 mm, inc. leads (LxW max))
simulation model D188 (DIODE)
pins: 1 A, 3 K

## Diode BAT18
designator D?
Low-Loss RF Switching Diode; Note: Pin 2 is not connected and not drawn.; Published: 21-Mar-2003; DatasheetDocument: Oct-1999; PackageDocument: Sep-2001; PackageReference: SOT-23; Publisher: Altium Limited; ComponentLink1Description: Manufacturer Link; ComponentLink1URL: http://www.infineon.com/
footprint SOT-23 (SOT-23; 3 Leads; Body 3.0 x 2.6 mm, inc. leads (LxW max))
simulation model BAT18 (DIODE)
pins: 1 A, 3 K

## Diode BBY31
designator D?
SOT23 Silicon Planar Variable Capacitance Diode; PackageDocument: 1996; Note: Pin 2 is not connected and not drawn.; Published: 8-Jun-2000; LatestRevisionDate: 17-Jul-2002; LatestRevisionNote: Re-released for DXP Platform.; DatasheetDocument: Jan-1998; PackageReference: SOT23; Publisher: Altium Limited; ComponentLink1Description: Manufacturer Link; ComponentLink1URL: http://www.zetex.com/; ComponentLink2Description: Datasheet; ComponentLink2URL: www.zetex.com/3.0/pdf/BBY31.pdf
footprint SOT23 (SOT-23; 3 Leads; Body 3.1 x 2.5 mm, inc. leads (LxW max), Alternate Lead Configuration)
simulation model BBY31 (DIODE)
pins: 1 K, 3 A

## Diode BBY40
designator D?
SOT23 Silicon Planar Variable Capacitance Diode; PackageDocument: 1996; Note: Pin 2 is not connected and not drawn.; Published: 8-Jun-2000; LatestRevisionDate: 17-Jul-2002; LatestRevisionNote: Re-released for DXP Platform.; DatasheetDocument: Jan-1998; PackageReference: SOT23; Publisher: Altium Limited; ComponentLink1Description: Manufacturer Link; ComponentLink1URL: http://www.zetex.com/; ComponentLink2Description: Datasheet; ComponentLink2URL: www.zetex.com/3.0/pdf/BBY40.pdf
footprint SOT23 (SOT-23; 3 Leads; Body 3.1 x 2.5 mm, inc. leads (LxW max), Alternate Lead Configuration)
simulation model BBY40 (DIODE)
pins: 1 K, 3 A

## Dpy 16-Seg
designator DS?
13.7 mm Gray Surface As AlInGaP Red Alphanumeric Display: 2-Character, CC; Published: 8-Jun-2000; LatestRevisionDate: 17-Dec-2003; LatestRevisionNote: Schematic revised, PCB Footprint replaced.; DatasheetDocument: 20-Nov-2001; PackageDocument: 20-Nov-2001; PackageReference: HDSP-A2; Publisher: Altium Limited; Colour: As AlInGaP Red; ComponentLink1Description: Manufacturer Link; ComponentLink1URL: http://www.agilent.com/
footprint HDSP-A2 (LED, Alphanumeric Display, 13.8 mm, Dual Character; 18 Leads; Row Space 15.24 mm; Pitch 2.54 mm)
simulation model HDSP_A27C (SUBCKT)
pins: 1 e "Digits (1&2) e Anode", 2 m "Digits (1&2) m Anode", 3 NC "No Connect", 4 l "Digits (1&2) l Anode", 5 k "Digits (1&2) k Anode", 6 j "Digits (1&2) j Anode", 7 d "Digits (1&2) d Anode", 8 DP "Digit 1&2 DP Anode", 9 c "Digits (1&2) c Anode", 10 b "Digits (1&2) b Anode", 11 K2 "Digit 2 Common Cathode", 12 a "Digits (1&2) a Anode", 13 n "Digits (1&2) n Anode", 14 h "Digits (1&2) h Anode", 15 g "Digits (1&2) g Anode", 16 K1 "Digit 1 Common Cathode", 17 p "Digits (1&2) p Anode", 18 f "Digits (1&2) f Anode"
text: DIG1; DIG2; DP1; DP2

## Dpy Amber-CA
designator DS?
7.62 mm Black Surface Orange 7-Segment Display: CA, RH DP; MinimumIntensity: 354 ucd; Note: IF = 5 mA; Note: Pins 1 and 6 are redundant Anodes.; Published: 8-Jun-2000; LatestRevisionDate: 17-Dec-2003; LatestRevisionNote: Schematic revised, PCB Footprint replaced.; DatasheetDocument: 19-Feb-2002; PackageDocument: 19-Feb-2002; PackageReference: LEDDIP-10; Publisher: Altium Limited; Colour: Orange; ComponentLink1Description: Manufacturer Link; ComponentLink1URL: http://www.agilent.com/
footprint LEDDIP-10 (LED, 7-Segment Display, 7.62 mm, RHD; 10 Leads; Row Space 5.08 mm; Pitch 2.54 mm)
simulation model HDSP_A211 (SUBCKT)
pins: 1 A "Anode", 2 f "Cathode", 3 g "Cathode", 4 e "Cathode", 5 d "Cathode", 6 A "Anode", 7 DP "Cathode", 8 c "Cathode", 9 b "Cathode", 10 a "Cathode"

## Dpy Amber-CC
designator DS?
7.62 mm Black Surface Orange 7-Segment Display: CC, RH DP; MinimumIntensity: 354 ucd; Note: IF = 5 mA; Note: Pins 1 and 6 are redundant Cathodes.; Published: 8-Jun-2000; LatestRevisionDate: 17-Dec-2003; LatestRevisionNote: Schematic revised, PCB Footprint replaced.; DatasheetDocument: 19-Feb-2002; PackageDocument: 19-Feb-2002; PackageReference: LEDDIP-10; Publisher: Altium Limited; Colour: Orange; ComponentLink1Description: Manufacturer Link; ComponentLink1URL: http://www.agilent.com/
footprint LEDDIP-10 (LED, 7-Segment Display, 7.62 mm, RHD; 10 Leads; Row Space 5.08 mm; Pitch 2.54 mm)
simulation model HDSP_A213 (SUBCKT)
pins: 1 K "Cathode", 2 f "Anode", 3 g "Anode", 4 e "Anode", 5 d "Anode", 6 K "Cathode", 7 DP "Anode", 8 c "Anode", 9 b "Anode", 10 a "Anode"

## Dpy Blue-CA
designator DS?
14.2 mm General Purpose Blue 7-Segment Display: CA, RH DP, Gray Surface; MinimumIntensity: 2020 ucd; Note: IF = 10 mA; Published: 8-Jun-2000; LatestRevisionDate: 17-Dec-2003; LatestRevisionNote: Schematic revised, PCB Footprint replaced.; DatasheetDocument: 24-Sep-2002; PackageDocument: 24-Sep-2002; PackageReference: H; Publisher: Altium Limited; Colour: Blue; ComponentLink1Description: Manufacturer Link; ComponentLink1URL: http://www.agilent.com/
footprint H (LED, 7-Segment Display, 14.2 mm, RHD; 10 Leads; Row Space 15.24 mm; Pitch 2.54 mm)
simulation model HDSP_501B (SUBCKT)
pins: 1 e "Cathode", 2 d "Cathode", 3 A "Common Anode", 4 c "Cathode", 5 DP "Cathode", 6 b "Cathode", 7 a "Cathode", 8 A "Common Anode", 9 f "Cathode", 10 g "Cathode"

## Dpy Blue-CC
designator DS?
14.2 mm General Purpose Blue 7-Segment Display: CC, RH DP, Gray Surface; MinimumIntensity: 2020 ucd; Note: IF = 10 mA; Published: 8-Jun-2000; LatestRevisionDate: 17-Dec-2003; LatestRevisionNote: Schematic revised, PCB Footprint replaced.; DatasheetDocument: 24-Sep-2002; PackageDocument: 24-Sep-2002; PackageReference: H; Publisher: Altium Limited; Colour: Blue; ComponentLink1Description: Manufacturer Link; ComponentLink1URL: http://www.agilent.com/
footprint H (LED, 7-Segment Display, 14.2 mm, RHD; 10 Leads; Row Space 15.24 mm; Pitch 2.54 mm)
simulation model HDSP_503B (SUBCKT)
pins: 1 e "Anode", 2 d "Anode", 3 K "Common Cathode", 4 c "Anode", 5 DP "Anode", 6 b "Anode", 7 a "Anode", 8 K "Common Cathode", 9 f "Anode", 10 g "Anode"

## Dpy Green-CA
designator DS?
7.62 mm Black Surface Green 7-Segment Display: CA, RH DP; MinimumIntensity: 860 ucd; Note: IF = 10 mA; Note: Pins 1 and 6 are redundant Anodes.; Published: 8-Jun-2000; LatestRevisionDate: 17-Dec-2003; LatestRevisionNote: Schematic revised, PCB Footprint replaced.; DatasheetDocument: 19-Feb-2002; PackageDocument: 19-Feb-2002; PackageReference: LEDDIP-10; Publisher: Altium Limited; Colour: Green; ComponentLink1Description: Manufacturer Link; ComponentLink1URL: http://www.agilent.com/
footprint LEDDIP-10 (LED, 7-Segment Display, 7.62 mm, RHD; 10 Leads; Row Space 5.08 mm; Pitch 2.54 mm)
simulation model HDSP_A511 (SUBCKT)
pins: 1 A "Anode", 2 f "Cathode", 3 g "Cathode", 4 e "Cathode", 5 d "Cathode", 6 A "Anode", 7 DP "Cathode", 8 c "Cathode", 9 b "Cathode", 10 a "Cathode"

## Dpy Green-CC
designator DS?
7.62 mm Black Surface Green 7-Segment Display: CC, RH DP; MinimumIntensity: 860 ucd; Note: IF = 10 mA; Note: Pins 1 and 6 are redundant Cathodes.; Published: 8-Jun-2000; LatestRevisionDate: 17-Dec-2003; LatestRevisionNote: Schematic revised, PCB Footprint replaced.; DatasheetDocument: 19-Feb-2002; PackageDocument: 19-Feb-2002; PackageReference: LEDDIP-10; Publisher: Altium Limited; Colour: Green; ComponentLink1Description: Manufacturer Link; ComponentLink1URL: http://www.agilent.com/
footprint LEDDIP-10 (LED, 7-Segment Display, 7.62 mm, RHD; 10 Leads; Row Space 5.08 mm; Pitch 2.54 mm)
simulation model HDSP_A513 (SUBCKT)
pins: 1 K "Cathode", 2 f "Anode", 3 g "Anode", 4 e "Anode", 5 d "Anode", 6 K "Cathode", 7 DP "Anode", 8 c "Anode", 9 b "Anode", 10 a "Anode"

## Dpy Overflow
designator DS?
7.62 mm HER 7-Segment Display: Universal ±1 Overflow, RH DP; MinimumIntensity: 340 ucd; Note: IF = 5 mA; Colour: High Efficiency Red (HER); Note: No pins are present in positions 2 and 9.; Published: 8-Jun-2000; LatestRevisionDate: 17-Dec-2003; LatestRevisionNote: Schematic revised, PCB Footprint replaced.; DatasheetDocument: 27-Aug-2001; PackageDocument: 10-Mar-2001; PackageReference: A-12; Publisher: Altium Limited; ComponentLink1Description: Manufacturer Link; ComponentLink1URL: http://www.agilent.com/
footprint A-12 (LED, Universal ±1 Overflow, 7.62 mm, RHD; 14 Leads (2 Absent); Row Space 7.62 mm; Pitch 2.54 mm)
simulation model 5082_7616 (SUBCKT)
pins: 1 d "Anode", 3 d "Cathode", 4 c "Cathode", 5 e "Cathode", 6 e "Anode", 7 c "Anode", 8 DP "Anode", 10 DP "Cathode", 11 b "Cathode", 12 a "Cathode", 13 a "Anode", 14 b "Anode"

## Dpy Red-CA
designator DS?
7.62 mm Black Surface HER 7-Segment Display: CA, RH DP; MinimumIntensity: 360 ucd; Note: IF = 5 mA; Colour: High Efficiency Red (HER); Note: Pins 1 and 6 are redundant Anodes.; Published: 8-Jun-2000; LatestRevisionDate: 17-Dec-2003; LatestRevisionNote: Schematic revised, PCB Footprint replaced.; DatasheetDocument: 19-Feb-2002; PackageDocument: 19-Feb-2002; PackageReference: LEDDIP-10; Publisher: Altium Limited; ComponentLink1Description: Manufacturer Link; ComponentLink1URL: http://www.agilent.com/
footprint LEDDIP-10 (LED, 7-Segment Display, 7.62 mm, RHD; 10 Leads; Row Space 5.08 mm; Pitch 2.54 mm)
simulation model HDSP_A211 (SUBCKT)
pins: 1 A "Anode", 2 f "Cathode", 3 g "Cathode", 4 e "Cathode", 5 d "Cathode", 6 A "Anode", 7 DP "Cathode", 8 c "Cathode", 9 b "Cathode", 10 a "Cathode"

## Dpy Red-CC
designator DS?
7.62 mm Black Surface HER 7-Segment Display: CC, RH DP; MinimumIntensity: 360 ucd; Note: IF = 5 mA; Colour: High Efficiency Red (HER); Note: Pins 1 and 6 are redundant Cathodes.; Published: 8-Jun-2000; LatestRevisionDate: 17-Dec-2003; LatestRevisionNote: Schematic revised, PCB Footprint replaced.; DatasheetDocument: 19-Feb-2002; PackageDocument: 19-Feb-2002; PackageReference: LEDDIP-10; Publisher: Altium Limited; ComponentLink1Description: Manufacturer Link; ComponentLink1URL: http://www.agilent.com/
footprint LEDDIP-10 (LED, 7-Segment Display, 7.62 mm, RHD; 10 Leads; Row Space 5.08 mm; Pitch 2.54 mm)
simulation model HDSP_A213 (SUBCKT)
pins: 1 K "Cathode", 2 f "Anode", 3 g "Anode", 4 e "Anode", 5 d "Anode", 6 K "Cathode", 7 DP "Anode", 8 c "Anode", 9 b "Anode", 10 a "Anode"

## Dpy Yellow-CA
designator DS?
7.6 mm Micro Bright Yellow 7-Segment Display: CA, RH DP; MinimumIntensity: 225 ucd; Note: IF = 5 mA; Note: Pins 1 and 6 are redundant Anodes.; Published: 8-Jun-2000; LatestRevisionDate: 17-Dec-2003; LatestRevisionNote: Schematic revised, PCB Footprint replaced.; DatasheetDocument: 11-Feb-2002; PackageDocument: 19-Feb-2002; PackageReference: LEDDIP-10; Publisher: Altium Limited; Colour: Yellow; ComponentLink1Description: Manufacturer Link; ComponentLink1URL: http://www.agilent.com/
footprint LEDDIP-10 (LED, 7-Segment Display, 7.62 mm, RHD; 10 Leads; Row Space 5.08 mm; Pitch 2.54 mm)
simulation model HDSP_7401 (SUBCKT)
pins: 1 A "Anode", 2 f "Cathode", 3 g "Cathode", 4 e "Cathode", 5 d "Cathode", 6 A "Anode", 7 DP "Cathode", 8 c "Cathode", 9 b "Cathode", 10 a "Cathode"

## Dpy Yellow-CC
designator DS?
7.6 mm Micro Bright Yellow 7-Segment Display: CC, RH DP; MinimumIntensity: 225 ucd; Note: IF = 5 mA; Note: Pins 1 and 6 are redundant Cathodes.; Published: 8-Jun-2000; LatestRevisionDate: 17-Dec-2003; LatestRevisionNote: Schematic revised, PCB Footprint replaced.; DatasheetDocument: 11-Feb-2002; PackageDocument: 19-Feb-2002; PackageReference: LEDDIP-10; Publisher: Altium Limited; Colour: Yellow; ComponentLink1Description: Manufacturer Link; ComponentLink1URL: http://www.agilent.com/
footprint LEDDIP-10 (LED, 7-Segment Display, 7.62 mm, RHD; 10 Leads; Row Space 5.08 mm; Pitch 2.54 mm)
simulation model HDSP_7403 (SUBCKT)
pins: 1 K "Cathode", 2 f "Anode", 3 g "Anode", 4 e "Anode", 5 d "Anode", 6 K "Cathode", 7 DP "Anode", 8 c "Anode", 9 b "Anode", 10 a "Anode"

## Fuse 1
designator F?
Fuse; Published: 8-Jun-2000; LatestRevisionDate: 17-Jul-2002; LatestRevisionNote: Re-released for DXP Platform.; PackageReference: PIN-W2/E2.8; Publisher: Altium Limited
footprint PIN-W2/E2.8 (Fuse; 2 Leads)
simulation model FUSE (Spice Subcircuit)
pins: 1, 2

## Fuse 2
designator F?
Fuse; Published: 8-Jun-2000; LatestRevisionDate: 17-Jul-2002; LatestRevisionNote: Re-released for DXP Platform.; PackageReference: PIN-W2/E2.8; Publisher: Altium Limited
footprint PIN-W2/E2.8 (Fuse; 2 Leads)
simulation model FUSE (Spice Subcircuit)
pins: 1, 2

## Fuse Thermal
designator F?
Thermal Fuse; Published: 24-Mar-1999; LatestRevisionDate: 17-Jul-2002; LatestRevisionNote: Re-released for DXP Platform.; PackageReference: PIN-W2/E2.8; Publisher: Altium Limited
footprint PIN-W2/E2.8 (Thermal Fuse; 2 Leads)
pins: 1, 2

## IF140
designator Q?
N-JFET NJ14AL Process; Published: 8-Jun-2000; LatestRevisionDate: 17-Jul-2002; LatestRevisionNote: Re-released for DXP Platform.; PackageReference: TO-254-AA; Publisher: Altium Limited; Code_JEDEC: TO-254-AA
footprint TO-72 (Can; 4 Leads; Pin Circle Dia. 2.54 mm; Lead Dia. 0.48 mm (max))
pins: 1 S, 2 D, 3 G, 4 Case

## IF9030
designator Q?
N-JFET NJ9030L Process; Published: 8-Jun-2000; LatestRevisionDate: 17-Jul-2002; LatestRevisionNote: Re-released for DXP Platform.; PackageReference: TO-254-AA; Publisher: Altium Limited; Code_JEDEC: TO-254-AA
simulation model NJFET
footprint TO-52 (Can; 3 Leads; Pin Circle Dia. 2.54 mm)
pins: 1 S, 2 D, 3 G

## IGBT-N
designator Q?
Insulated Gate Bipolar Transistor (N-Channel); Published: 8-Jun-2000; LatestRevisionDate: 17-Jul-2002; LatestRevisionNote: Re-released for DXP Platform.; DatasheetDocument: PD-9.684A; PackageReference: TO-247; Publisher: Altium Limited; Code_JEDEC: TO-247-AC; ComponentLink1Description: Manufacturer Link; ComponentLink1URL: http://www.irf.com/
footprint TO-247 (SIP with Mounting Hole; 3 Leads; Body 20 x 15.6 x 5 mm (typ); Pitch 5.45 mm)
simulation model IRGPC40U (Spice Subcircuit)
pins: 1 G, 2 C, 3 E

## IGBT-P
designator Q?
PNP Bipolar Junction Transistor; Published: 8-Jun-2000; LatestRevisionDate: 17-Jul-2002; LatestRevisionNote: Re-released for DXP Platform.; PackageReference: TO-264-AA; Publisher: Altium Limited; Code_JEDEC: TO-264-AA
footprint TO-264-AA (SIP with Mounting Hole; 3 Leads; Body 26 x 20 x 5 mm (typ); Pitch 5.45 mm)
simulation model PIGBT (Spice Subcircuit)
pins: 1 C, 2 G, 3 E

## Inductor
designator L?  value 10mH
Inductor; Code_IEC: 1005; Published: 8-Jun-2000; LatestRevisionDate: 17-Jul-2002; LatestRevisionNote: Re-released for DXP Platform.; PackageReference: 0402-A; Publisher: Altium Limited; Code_JEITA: 0402
footprint 0402-A (Chip Inductor; Body 1 x 0.5 mm (LxW typ))
footprint L0603 (Chip Inductor; Body 1.6 x 0.8 mm (LxW typ))
footprint 2012_Chip (2012 Chip; Chip Inductor; Body 2.0 x 1.2 mm (LxW typ))
footprint 2029 (Chip Inductor; Body 2 x 1.2 mm (LxW typ))
footprint 3261 (3216 Chip; Chip Inductor; Body 3.2 x 1.6 mm (LxW typ))
footprint 4564_Chip (4564 Chip; Chip Inductor; Body 4.5 x 6.4 mm (LxW typ))
simulation model INDUCTOR (Inductor)
signal-integrity model Inductor
pins: 1, 2

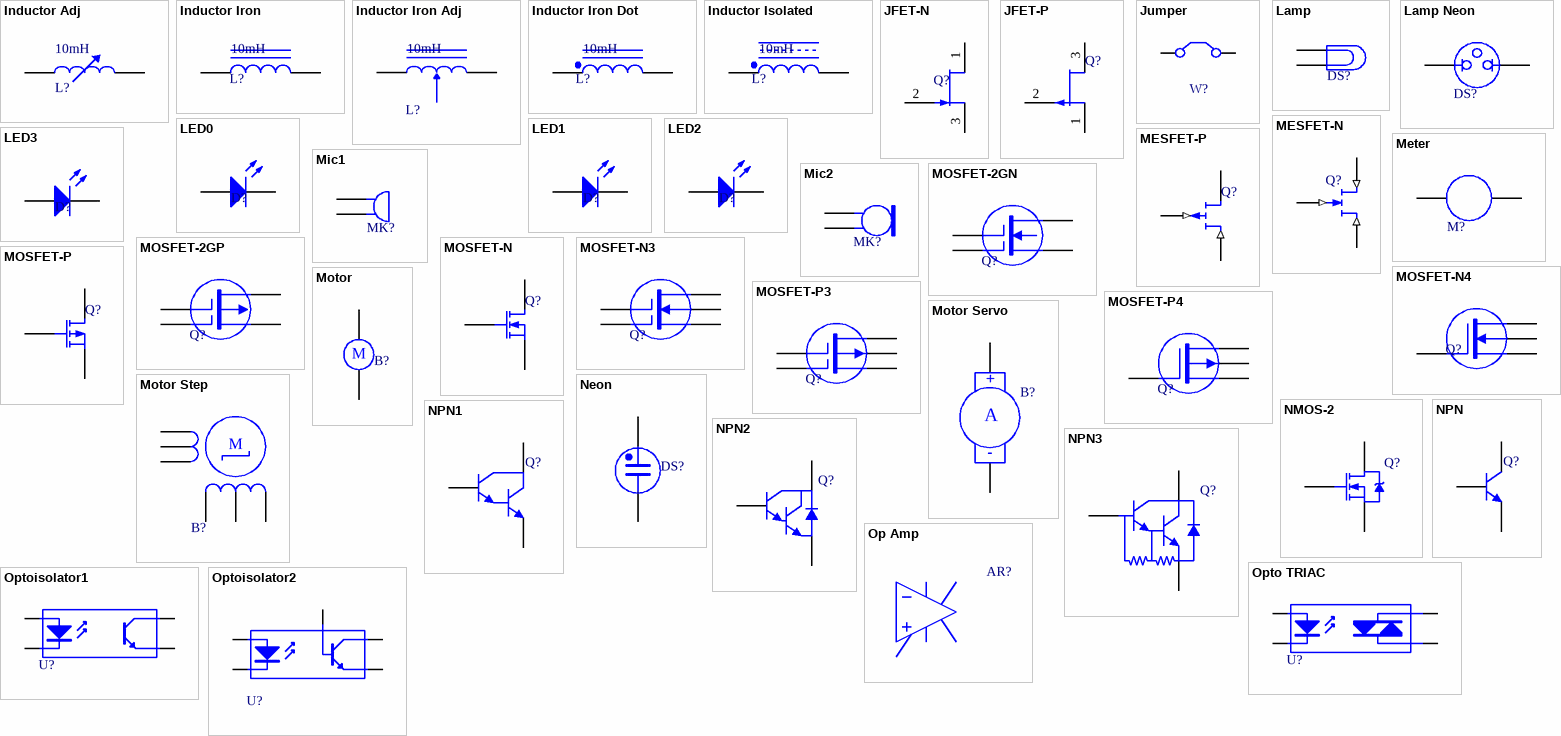
[diagram p2: symbols Inductor Adj to Optoisolator2]

## Inductor Adj
designator L?  value 10mH
Adjustable Inductor; Set Position: 0.5; Published: 24-Mar-1999; LatestRevisionDate: 17-Jul-2002; LatestRevisionNote: Re-released for DXP Platform.; PackageReference: AXIAL-0.8; Publisher: Altium Limited
footprint AXIAL-0.8 (Adjustable Inductor; 2 Leads)
simulation model INDUCTOR (Inductor)
signal-integrity model Inductor Adj
pins: 1, 2

## Inductor Iron
designator L?  value 10mH
Magnetic-Core Inductor; Published: 24-Mar-1999; LatestRevisionDate: 17-Jul-2002; LatestRevisionNote: Re-released for DXP Platform.; PackageReference: AXIAL-0.9; Publisher: Altium Limited
footprint AXIAL-0.9 (Magnetic-Core Inductor; 2 Leads)
simulation model INDUCTOR (Inductor)
signal-integrity model Inductor Iron
pins: 1, 2

## Inductor Iron Adj
designator L?  value 10mH
Adjustable Magnetic-Core Inductor; Set Position: 0.5; Published: 24-Mar-1999; LatestRevisionDate: 17-Jul-2002; LatestRevisionNote: Re-released for DXP Platform.; PackageReference: AXIAL-1.0; Publisher: Altium Limited
footprint AXIAL-1.0 (Adjustable Magnetic-Core Inductor; 2 Leads)
simulation model INDUCTOR (Inductor)
signal-integrity model Inductor Iron Adj
pins: 1, 2

## Inductor Iron Dot
designator L?  value 10mH
Magnetic-Core Inductor with Winding Polarity Marking; Published: 24-Mar-1999; LatestRevisionDate: 17-Jul-2002; LatestRevisionNote: Re-released for DXP Platform.; PackageReference: DIODE_SMC; Publisher: Altium Limited
footprint DIODE_SMC (Magnetic-Core Inductor with Winding Polarity Marking; 2 Leads)
signal-integrity model Inductor Iron Dot
pins: 1, 2

## Inductor Isolated
designator L?  value 10mH
Isolated Inductor; PackageDocument: 1988; Published: 24-Mar-1999; LatestRevisionDate: 17-Jul-2002; LatestRevisionNote: Re-released for DXP Platform.; PackageReference: 425; Publisher: Altium Limited
footprint 425 (SOD-123; 2 Leads; Body 2.7 x 1.6 mm, (LxW))
signal-integrity model Inductor Isolated
pins: 1, 2

## JFET-N
designator Q?
N-Channel JFET; Published: 8-Jun-2000; LatestRevisionDate: 17-Jul-2002; LatestRevisionNote: Re-released for DXP Platform.; PackageReference: TO-254-AA; Publisher: Altium Limited; Code_JEDEC: TO-254-AA
simulation model NJFET
footprint TO-18 (Can; 3 Leads; Pin Circle Dia. 2.54 mm; Lead Dia. 0.48 mm (max))
footprint TO-92 (TO, Flat Index; 3 In-Line, Axial Leads; Body Dia. 5.1mm; Leads 0.48 x 0.48 mm (max))
footprint TO-18A (SC-89; 3 Flat Leads; Body 1.6 x 1.6 x 0.7 mm, inc leads (LxWxH typ))
footprint TO-72 (Can; 4 Leads; Pin Circle Dia. 2.54 mm; Lead Dia. 0.48 mm (max))
pins: 1 D, 2 G, 3 S

## JFET-P
designator Q?
P-Channel JFET; Published: 8-Jun-2000; LatestRevisionDate: 17-Jul-2002; LatestRevisionNote: Re-released for DXP Platform.; PackageReference: TO-18A; Publisher: Altium Limited
footprint TO-18A (SC-89; 3 Flat Leads; Body 1.6 x 1.6 x 0.7 mm, inc leads (LxWxH typ))
simulation model PJFET
footprint TO-18 (Can; 3 Leads; Pin Circle Dia. 2.54 mm; Lead Dia. 0.48 mm (max))
footprint TO-92 (TO, Flat Index; 3 In-Line, Axial Leads; Body Dia. 5.1mm; Leads 0.48 x 0.48 mm (max))
footprint TO-72 (Can; 4 Leads; Pin Circle Dia. 2.54 mm; Lead Dia. 0.48 mm (max))
pins: 1 D, 2 G, 3 S